# EAGLE library part 750316326 (library WE-OLTI)
WE-OLTI Offline Flyback Transformers Characteristics Nominal input voltage: 85–265 VAC (120–375 VDC) Small size Low leakage inductance Multiple-output options Operating temperature: −40 °C to +125 °C Isolation Voltage: 2 kVAC to 5 kVAC Options for fixed frequency or quasi-resonant mode operation Most products meet reinforced insulation Applications Industrial controls USB chargers Utility metering devices Process controls Factory automation Security systems Garage door opener auxiliary supplies Home appliances Especially designed for several ICs from Texas Instruments Details see: www.we-online.com/en/components/products/WE-OLTI Created by Ella 2025-02-06 2025 (C) Würth Elektronik
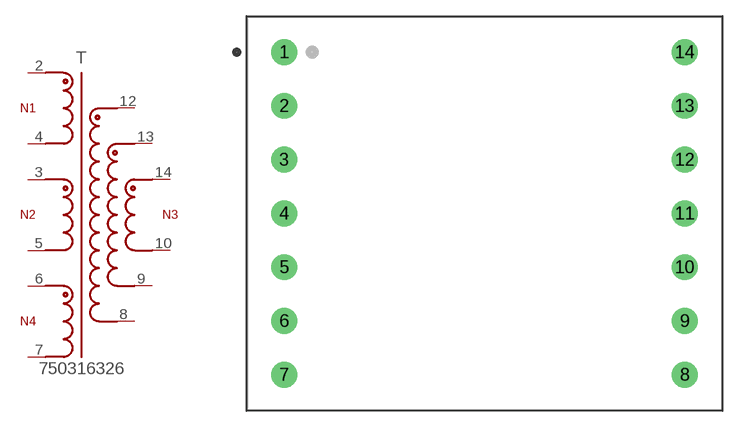
[diagram p23: symbol with the pads of WE-OLTI_ERL35_L36.5W44H28.5; footprint WE-OLTI_ERL35_L36.5W44H28.5]

Designator prefix T

## 750316326 (AUXILIARY_VOLTAGE_1: 12 V; CATEGORY: Transformers; DATASHEET: https://www.we-online.com/redexpert/spec/750316326?ae; HEIGHT: 28.5 mm; INDUCTANCE: 250 uH; INPUT_VOLTAGE: 85 - 265 V (AC); INSULATION_TEST_VOLTAGE: 3600 V (AC); LENGTH: 36.5 mm; MANUFACTURER: Würth Elektronik; MOUNT: THT; MPN: 750316326; OUTPUT_CURRENT_1: 6000 mA; OUTPUT_VOLTAGE_1: 27 V; SATURATION_CURRENT: 7.5 A; SIZE: ERL35; SWITCHING-FREQUENCY: 120kHz; TURNS_RATIO: 4:1:0.5; VALUE: 250 uH; WIDTH: 44 mm)  [WE-OLTI_ERL35_L36.5W44H28.5]
2  2  pas
3  3  pas
4  4  pas
5  5  pas
6  6  pas
7  7  pas
8  8  pas
9  9  pas
10  10  pas
12  12  pas
13  13  pas
14  14  pas

## Footprint WE-OLTI_ERL35_L36.5W44H28.5 (pad centres in mm)
WE-OLTI Offline Flyback Transformers Size: ERL35,THT,14pins LXWXH=36.5X44X28.5mm Bobbin: 070-5783
drill 1.6: 1 -18.6,15; 2 -18.6,10; 3 -18.6,5; 4 -18.6,0; 5 -18.6,-5; 6 -18.6,-10; 7 -18.6,-15; 8 18.6,-15; 9 18.6,-10; 10 18.6,-5; 11 18.6,0; 12 18.6,5; 13 18.6,10; 14 18.6,15